# Altium integrated library Winbond Devices.IntLib: 19 symbols
Pins are listed as number, name and electrical type; pins without a type are passive.

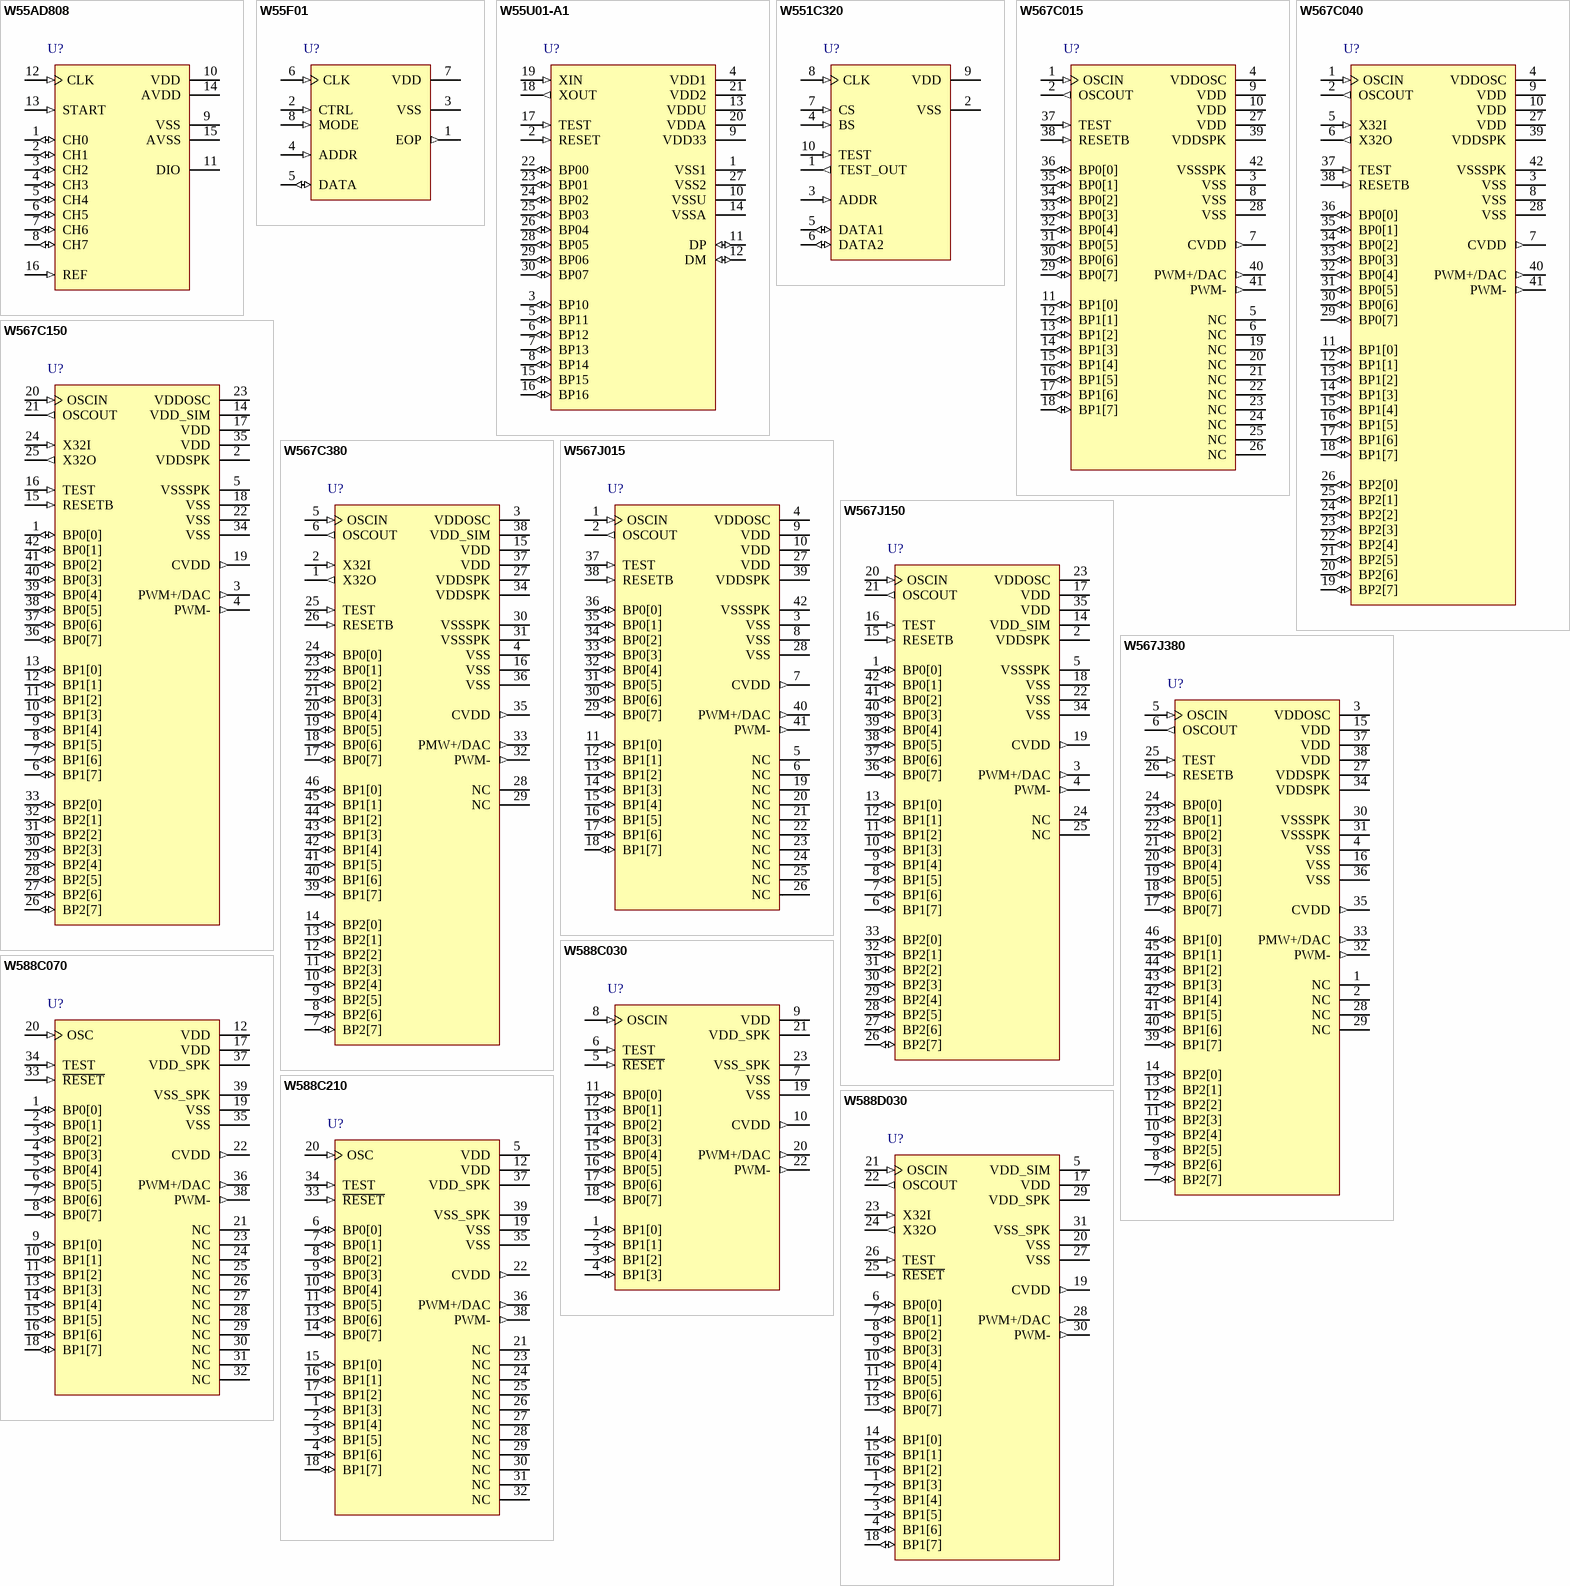
[diagram p0: symbols W55AD808 to W588D030]

## W55AD808
designator U?
8-Bit Analog to Digital Converter, 3V - 5.5V range, Chip Form; PackageForm: Supplied as a Die.; Published: 30-Mar-2007; PackageReference: Chip_Form; Publisher: Altium Limited; ComponentLink1Description: Manufacturer Link; ComponentLink1URL: http://www.winbond.com/
pins: 1 CH0 (io), 2 CH1 (io), 3 CH2 (io), 4 CH3 (io), 5 CH4 (io), 6 CH5 (io), 7 CH6 (io), 8 CH7 (io), 9 VSS (power), 10 VDD (power), 11 DIO, 12 CLK (in), 13 START (in), 14 AVDD (power), 15 AVSS (power), 16 REF (in)

## W55F01
designator U?
128 Kbits Serial Flash EEPROM, Chip Form; PackageForm: Supplied as a Die.; Published: 30-Mar-2007; DatasheetVersion: revA4. Apr-2005; PackageReference: Chip_Form; Publisher: Altium Limited; ComponentLink1Description: Manufacturer Link; ComponentLink1URL: http://www.winbond.com/; ComponentLink2Description: Datasheet; ComponentLink2URL: http://www.winbond.com/e-winbondhtm/partner/PDFresult.asp?Pname=703
pins: 1 EOP (out), 2 CTRL (in), 3 VSS (power), 4 ADDR (in), 5 DATA (io), 6 CLK (in), 7 VDD (power), 8 MODE (in)

## W55U01-A1
designator U?
USB V1.1 Controller, 8-bit 8MHz microprocessor, Chip Form; PackageForm: Supplied as a Die.; Published: 30-Mar-2007; DatasheetVersion: revA5.1, Nov-2005; PackageReference: Chip_Form; Publisher: Altium Limited; ComponentLink1Description: Manufacturer Link; ComponentLink1URL: http://www.winbond.com/
pins: 1 VSS1 (power), 2 RESET (in), 3 BP10 (io), 4 VDD1 (power), 5 BP11 (io), 6 BP12 (io), 7 BP13 (io), 8 BP14 (io), 9 VDD33 (power), 10 VSSU (power), 11 DP (io), 12 DM (io), 13 VDDU (power), 14 VSSA (power), 15 BP15 (io), 16 BP16 (io), 17 TEST (in), 18 XOUT (out), 19 XIN (in), 20 VDDA (power), 21 VDD2 (power), 22 BP00 (io), 23 BP01 (io), 24 BP02 (io), 25 BP03 (io), 26 BP04 (io), 27 VSS2 (power), 28 BP05 (io), 29 BP06 (io), 30 BP07 (io)

## W551C320
designator U?
32 MBits Serial Voice Memory IC, 2.4V - 5.5V range, Chip Form; PackageForm: Supplied as a Die.; Published: 30-Mar-2007; DatasheetVersion: revA3, Oct-2005; PackageReference: Chip_Form; Publisher: Altium Limited; ComponentLink1Description: Manufacturer Link; ComponentLink1URL: http://www.winbond.com/; ComponentLink2Description: Datasheet; ComponentLink2URL: http://www.winbond.com/e-winbondhtm/partner/PDFresult.asp?Pname=702
pins: 1 TEST_OUT (out), 2 VSS (power), 3 ADDR (in), 4 BS (in), 5 DATA1 (io), 6 DATA2 (io), 7 CS (in), 8 CLK (in), 9 VDD (power), 10 TEST (in)

## W567C015
designator U?
16-Channel Speech+Melody Processor, 16 I/Os, 17 second Playback Duration, Chip Form; PackageForm: Supplied as a Die.; Published: 30-Mar-2007; DatasheetVersion: revA0, Dec-2006; PackageReference: Chip_Form; Publisher: Altium Limited; ComponentLink1Description: Manufacturer Link; ComponentLink1URL: http://www.winbond.com/
pins: 1 OSCIN (in), 2 OSCOUT (out), 3 VSS (power), 4 VDDOSC (power), 5 NC, 6 NC, 7 CVDD (out), 8 VSS (power), 9 VDD (power), 10 VDD (power), 11 BP1[0] (io), 12 BP1[1] (io), 13 BP1[2] (io), 14 BP1[3] (io), 15 BP1[4] (io), 16 BP1[5] (io), 17 BP1[6] (io), 18 BP1[7] (io), 19 NC, 20 NC, 21 NC, 22 NC, 23 NC, 24 NC, 25 NC, 26 NC, 27 VDD (power), 28 VSS (power), 29 BP0[7] (io), 30 BP0[6] (io), 31 BP0[5] (io), 32 BP0[4] (io), 33 BP0[3] (io), 34 BP0[2] (io), 35 BP0[1] (io), 36 BP0[0] (io), 37 TEST (in), 38 RESETB (in), 39 VDDSPK (power), 40 PWM+/DAC (out), 41 PWM- (out), 42 VSSSPK (power)

## W567C040
designator U?
16-Channel Speech+Melody Processor, 24 I/Os, 43 second Playback Duration, Chip Form; PackageForm: Supplied as a Die.; Published: 30-Mar-2007; DatasheetVersion: revA0, Dec-2006; PackageReference: Chip_Form; Publisher: Altium Limited; ComponentLink1Description: Manufacturer Link; ComponentLink1URL: http://www.winbond.com/
pins: 1 OSCIN (in), 2 OSCOUT (out), 3 VSS (power), 4 VDDOSC (power), 5 X32I (in), 6 X32O (out), 7 CVDD (out), 8 VSS (power), 9 VDD (power), 10 VDD (power), 11 BP1[0] (io), 12 BP1[1] (io), 13 BP1[2] (io), 14 BP1[3] (io), 15 BP1[4] (io), 16 BP1[5] (io), 17 BP1[6] (io), 18 BP1[7] (io), 19 BP2[7] (io), 20 BP2[6] (io), 21 BP2[5] (io), 22 BP2[4] (io), 23 BP2[3] (io), 24 BP2[2] (io), 25 BP2[1] (io), 26 BP2[0] (io), 27 VDD (power), 28 VSS (power), 29 BP0[7] (io), 30 BP0[6] (io), 31 BP0[5] (io), 32 BP0[4] (io), 33 BP0[3] (io), 34 BP0[2] (io), 35 BP0[1] (io), 36 BP0[0] (io), 37 TEST (in), 38 RESETB (in), 39 VDDSPK (power), 40 PWM+/DAC (out), 41 PWM- (out), 42 VSSSPK (power)

## W567C150
designator U?
16-Channel Speech+Melody Processor, 24 I/Os, 162 second Playback Duration, Chip Form; PackageForm: Supplied as a Die.; Published: 30-Mar-2007; DatasheetVersion: revA0, Dec-2006; PackageReference: Chip_Form; Publisher: Altium Limited; ComponentLink1Description: Manufacturer Link; ComponentLink1URL: http://www.winbond.com/
pins: 1 BP0[0] (io), 2 VDDSPK (power), 3 PWM+/DAC (out), 4 PWM- (out), 5 VSSSPK (power), 6 BP1[7] (io), 7 BP1[6] (io), 8 BP1[5] (io), 9 BP1[4] (io), 10 BP1[3] (io), 11 BP1[2] (io), 12 BP1[1] (io), 13 BP1[0] (io), 14 VDD_SIM (power), 15 RESETB (in), 16 TEST (in), 17 VDD (power), 18 VSS (power), 19 CVDD (out), 20 OSCIN (in), 21 OSCOUT (out), 22 VSS (power), 23 VDDOSC (power), 24 X32I (in), 25 X32O (out), 26 BP2[7] (io), 27 BP2[6] (io), 28 BP2[5] (io), 29 BP2[4] (io), 30 BP2[3] (io), 31 BP2[2] (io), 32 BP2[1] (io), 33 BP2[0] (io), 34 VSS (power), 35 VDD (power), 36 BP0[7] (io), 37 BP0[6] (io), 38 BP0[5] (io), 39 BP0[4] (io), 40 BP0[3] (io), 41 BP0[2] (io), 42 BP0[1] (io)

## W567C380
designator U?
16-Channel Speech+Melody Processor, 24 I/Os, 400 second Playback Duration, Chip Form; PackageForm: Supplied as a Die.; Published: 30-Mar-2007; DatasheetVersion: revA0, Dec-2006; PackageReference: Chip_Form; Publisher: Altium Limited; ComponentLink1Description: Manufacturer Link; ComponentLink1URL: http://www.winbond.com/
pins: 1 X32O (out), 2 X32I (in), 3 VDDOSC (power), 4 VSS (power), 5 OSCIN (in), 6 OSCOUT (out), 7 BP2[7] (io), 8 BP2[6] (io), 9 BP2[5] (io), 10 BP2[4] (io), 11 BP2[3] (io), 12 BP2[2] (io), 13 BP2[1] (io), 14 BP2[0] (io), 15 VDD (power), 16 VSS (power), 17 BP0[7] (io), 18 BP0[6] (io), 19 BP0[5] (io), 20 BP0[4] (io), 21 BP0[3] (io), 22 BP0[2] (io), 23 BP0[1] (io), 24 BP0[0] (io), 25 TEST (in), 26 RESETB (in), 27 VDDSPK (power), 28 NC, 29 NC, 30 VSSSPK (power), 31 VSSSPK (power), 32 PWM- (out), 33 PMW+/DAC (out), 34 VDDSPK (power), 35 CVDD (out), 36 VSS (power), 37 VDD (power), 38 VDD_SIM (power), 39 BP1[7] (io), 40 BP1[6] (io), 41 BP1[5] (io), 42 BP1[4] (io), 43 BP1[3] (io), 44 BP1[2] (io), 45 BP1[1] (io), 46 BP1[0] (io)

## W567J015
designator U?
6-Channel Speech+Melody Processor, 16 I/Os, 17 second Playback Duration, Chip Form; PackageForm: Supplied as a Die.; Published: 30-Mar-2007; DatasheetVersion: revA0, Jan-2007; PackageReference: Chip_Form; Publisher: Altium Limited; ComponentLink1Description: Manufacturer Link; ComponentLink1URL: http://www.winbond.com/
pins: 1 OSCIN (in), 2 OSCOUT (out), 3 VSS (power), 4 VDDOSC (power), 5 NC, 6 NC, 7 CVDD (out), 8 VSS (power), 9 VDD (power), 10 VDD (power), 11 BP1[0] (io), 12 BP1[1] (io), 13 BP1[2] (io), 14 BP1[3] (io), 15 BP1[4] (io), 16 BP1[5] (io), 17 BP1[6] (io), 18 BP1[7] (io), 19 NC, 20 NC, 21 NC, 22 NC, 23 NC, 24 NC, 25 NC, 26 NC, 27 VDD (power), 28 VSS (power), 29 BP0[7] (io), 30 BP0[6] (io), 31 BP0[5] (io), 32 BP0[4] (io), 33 BP0[3] (io), 34 BP0[2] (io), 35 BP0[1] (io), 36 BP0[0] (io), 37 TEST (in), 38 RESETB (in), 39 VDDSPK (power), 40 PWM+/DAC (out), 41 PWM- (out), 42 VSSSPK (power)

## W567J150
designator U?
6-Channel Speech+Melody Processor, 24 I/Os, 162 second Playback Duration, Chip Form; PackageForm: Supplied as a Die.; Published: 30-Mar-2007; DatasheetVersion: revA0, Jan-2007; PackageReference: Chip_Form; Publisher: Altium Limited; ComponentLink1Description: Manufacturer Link; ComponentLink1URL: http://www.winbond.com/
pins: 1 BP0[0] (io), 2 VDDSPK (power), 3 PWM+/DAC (out), 4 PWM- (out), 5 VSSSPK (power), 6 BP1[7] (io), 7 BP1[6] (io), 8 BP1[5] (io), 9 BP1[4] (io), 10 BP1[3] (io), 11 BP1[2] (io), 12 BP1[1] (io), 13 BP1[0] (io), 14 VDD_SIM (power), 15 RESETB (in), 16 TEST (in), 17 VDD (power), 18 VSS (power), 19 CVDD (out), 20 OSCIN (in), 21 OSCOUT (out), 22 VSS (power), 23 VDDOSC (power), 24 NC, 25 NC, 26 BP2[7] (io), 27 BP2[6] (io), 28 BP2[5] (io), 29 BP2[4] (io), 30 BP2[3] (io), 31 BP2[2] (io), 32 BP2[1] (io), 33 BP2[0] (io), 34 VSS (power), 35 VDD (power), 36 BP0[7] (io), 37 BP0[6] (io), 38 BP0[5] (io), 39 BP0[4] (io), 40 BP0[3] (io), 41 BP0[2] (io), 42 BP0[1] (io)

## W567J380
designator U?
6-Channel Speech+Melody Processor, 24 I/Os, 400 second Playback Duration, Chip Form; PackageForm: Supplied as a Die.; Published: 30-Mar-2007; DatasheetVersion: revA0, Jan-2007; PackageReference: Chip_Form; Publisher: Altium Limited; ComponentLink1Description: Manufacturer Link; ComponentLink1URL: http://www.winbond.com/
pins: 1 NC, 2 NC, 3 VDDOSC (power), 4 VSS (power), 5 OSCIN (in), 6 OSCOUT (out), 7 BP2[7] (io), 8 BP2[6] (io), 9 BP2[5] (io), 10 BP2[4] (io), 11 BP2[3] (io), 12 BP2[2] (io), 13 BP2[1] (io), 14 BP2[0] (io), 15 VDD (power), 16 VSS (power), 17 BP0[7] (io), 18 BP0[6] (io), 19 BP0[5] (io), 20 BP0[4] (io), 21 BP0[3] (io), 22 BP0[2] (io), 23 BP0[1] (io), 24 BP0[0] (io), 25 TEST (in), 26 RESETB (in), 27 VDDSPK (power), 28 NC, 29 NC, 30 VSSSPK (power), 31 VSSSPK (power), 32 PWM- (out), 33 PMW+/DAC (out), 34 VDDSPK (power), 35 CVDD (out), 36 VSS (power), 37 VDD (power), 38 VDD (power), 39 BP1[7] (io), 40 BP1[6] (io), 41 BP1[5] (io), 42 BP1[4] (io), 43 BP1[3] (io), 44 BP1[2] (io), 45 BP1[1] (io), 46 BP1[0] (io)

## W588C030
designator U?
8-Bit MCU with Voice/Melody Synthesizer, 12 I/Os, Chip Form; PackageForm: Supplied as a Die.; Published: 30-Mar-2007; DatasheetVersion: revA0.1, Jun-2006; PackageReference: Chip_Form; Publisher: Altium Limited; ComponentLink1Description: Manufacturer Link; ComponentLink1URL: http://www.winbond.com/
pins: 1 BP1[0] (io), 2 BP1[1] (io), 3 BP1[2] (io), 4 BP1[3] (io), 5 ~{RESET} (in), 6 TEST (in), 7 VSS (power), 8 OSCIN (in), 9 VDD (power), 10 CVDD (out), 11 BP0[0] (io), 12 BP0[1] (io), 13 BP0[2] (io), 14 BP0[3] (io), 15 BP0[4] (io), 16 BP0[5] (io), 17 BP0[6] (io), 18 BP0[7] (io), 19 VSS (power), 20 PWM+/DAC (out), 21 VDD_SPK (power), 22 PWM- (out), 23 VSS_SPK (power)

## W588C070
designator U?
8-Bit MCU with Voice/Melody Synthesizer, 16 I/Os, Chip Form; PackageForm: Supplied as a Die.; Published: 30-Mar-2007; DatasheetVersion: revA0.1, Jun-2006; PackageReference: Chip_Form; Publisher: Altium Limited; ComponentLink1Description: Manufacturer Link; ComponentLink1URL: http://www.winbond.com/
pins: 1 BP0[0] (io), 2 BP0[1] (io), 3 BP0[2] (io), 4 BP0[3] (io), 5 BP0[4] (io), 6 BP0[5] (io), 7 BP0[6] (io), 8 BP0[7] (io), 9 BP1[0] (io), 10 BP1[1] (io), 11 BP1[2] (io), 12 VDD (power), 13 BP1[3] (io), 14 BP1[4] (io), 15 BP1[5] (io), 16 BP1[6] (io), 17 VDD (power), 18 BP1[7] (io), 19 VSS (power), 20 OSC (in), 21 NC, 22 CVDD (out), 23 NC, 24 NC, 25 NC, 26 NC, 27 NC, 28 NC, 29 NC, 30 NC, 31 NC, 32 NC, 33 ~{RESET} (in), 34 TEST (in), 35 VSS (power), 36 PWM+/DAC (out), 37 VDD_SPK (power), 38 PWM- (out), 39 VSS_SPK (power)

## W588C210
designator U?
8-Bit MCU with Voice/Melody Synthesizer, 16 I/Os, Chip Form; PackageForm: Supplied as a Die.; Published: 30-Mar-2007; DatasheetVersion: revA0.1, Jun-2006; PackageReference: Chip_Form; Publisher: Altium Limited; ComponentLink1Description: Manufacturer Link; ComponentLink1URL: http://www.winbond.com/
pins: 1 BP1[3] (io), 2 BP1[4] (io), 3 BP1[5] (io), 4 BP1[6] (io), 5 VDD (power), 6 BP0[0] (io), 7 BP0[1] (io), 8 BP0[2] (io), 9 BP0[3] (io), 10 BP0[4] (io), 11 BP0[5] (io), 12 VDD (power), 13 BP0[6] (io), 14 BP0[7] (io), 15 BP1[0] (io), 16 BP1[1] (io), 17 BP1[2] (io), 18 BP1[7] (io), 19 VSS (power), 20 OSC (in), 21 NC, 22 CVDD (out), 23 NC, 24 NC, 25 NC, 26 NC, 27 NC, 28 NC, 29 NC, 30 NC, 31 NC, 32 NC, 33 ~{RESET} (in), 34 TEST (in), 35 VSS (power), 36 PWM+/DAC (out), 37 VDD_SPK (power), 38 PWM- (out), 39 VSS_SPK (power)

## W588D030
designator U?
8-Bit MCU with Voice/Melody Synthesizer, 16 I/Os, 32 second Playback Duration, Chip Form; PackageForm: Supplied as a Die.; Published: 30-Mar-2007; DatasheetVersion: revA3, Apr-2006; PackageReference: Chip_Form; Publisher: Altium Limited; ComponentLink1Description: Manufacturer Link; ComponentLink1URL: http://www.winbond.com/
pins: 1 BP1[3] (io), 2 BP1[4] (io), 3 BP1[5] (io), 4 BP1[6] (io), 5 VDD_SIM (power), 6 BP0[0] (io), 7 BP0[1] (io), 8 BP0[2] (io), 9 BP0[3] (io), 10 BP0[4] (io), 11 BP0[5] (io), 12 BP0[6] (io), 13 BP0[7] (io), 14 BP1[0] (io), 15 BP1[1] (io), 16 BP1[2] (io), 17 VDD (power), 18 BP1[7] (io), 19 CVDD (out), 20 VSS (power), 21 OSCIN (in), 22 OSCOUT (out), 23 X32I (in), 24 X32O (out), 25 ~{RESET} (in), 26 TEST (in), 27 VSS (power), 28 PWM+/DAC (out), 29 VDD_SPK (power), 30 PWM- (out), 31 VSS_SPK (power)

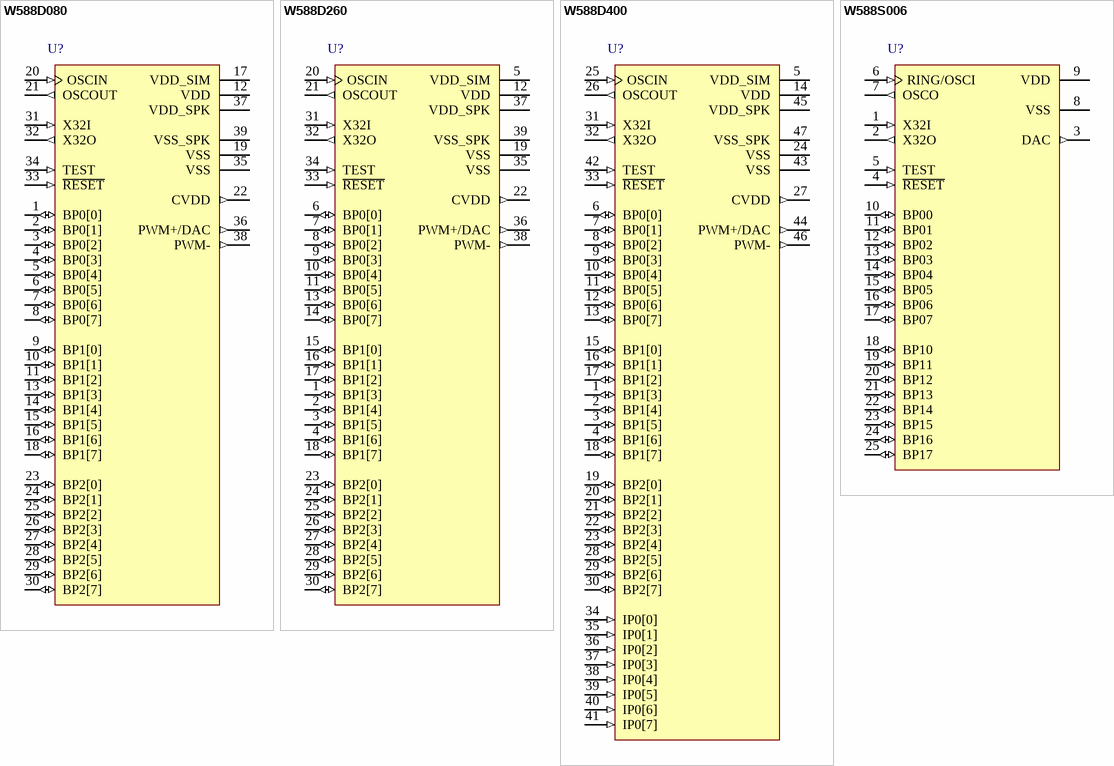
[diagram p1: symbols W588D080 to W588S006]

## W588D080
designator U?
8-Bit MCU with Voice/Melody Synthesizer, 24 I/Os, 100 second Playback Duration, Chip Form; PackageForm: Supplied as a Die.; Published: 30-Mar-2007; DatasheetVersion: revA3, Apr-2006; PackageReference: Chip_Form; Publisher: Altium Limited; ComponentLink1Description: Manufacturer Link; ComponentLink1URL: http://www.winbond.com/
pins: 1 BP0[0] (io), 2 BP0[1] (io), 3 BP0[2] (io), 4 BP0[3] (io), 5 BP0[4] (io), 6 BP0[5] (io), 7 BP0[6] (io), 8 BP0[7] (io), 9 BP1[0] (io), 10 BP1[1] (io), 11 BP1[2] (io), 12 VDD (power), 13 BP1[3] (io), 14 BP1[4] (io), 15 BP1[5] (io), 16 BP1[6] (io), 17 VDD_SIM (power), 18 BP1[7] (io), 19 VSS (power), 20 OSCIN (in), 21 OSCOUT (out), 22 CVDD (out), 23 BP2[0] (io), 24 BP2[1] (io), 25 BP2[2] (io), 26 BP2[3] (io), 27 BP2[4] (io), 28 BP2[5] (io), 29 BP2[6] (io), 30 BP2[7] (io), 31 X32I (in), 32 X32O (out), 33 ~{RESET} (in), 34 TEST (in), 35 VSS (power), 36 PWM+/DAC (out), 37 VDD_SPK (power), 38 PWM- (out), 39 VSS_SPK (power)

## W588D260
designator U?
8-Bit MCU with Voice/Melody Synthesizer, 24 I/Os, 271 second Playback Duration, Chip Form; PackageForm: Supplied as a Die.; Published: 30-Mar-2007; DatasheetVersion: revA3, Apr-2006; PackageReference: Chip_Form; Publisher: Altium Limited; ComponentLink1Description: Manufacturer Link; ComponentLink1URL: http://www.winbond.com/
pins: 1 BP1[3] (io), 2 BP1[4] (io), 3 BP1[5] (io), 4 BP1[6] (io), 5 VDD_SIM (power), 6 BP0[0] (io), 7 BP0[1] (io), 8 BP0[2] (io), 9 BP0[3] (io), 10 BP0[4] (io), 11 BP0[5] (io), 12 VDD (power), 13 BP0[6] (io), 14 BP0[7] (io), 15 BP1[0] (io), 16 BP1[1] (io), 17 BP1[2] (io), 18 BP1[7] (io), 19 VSS (power), 20 OSCIN (in), 21 OSCOUT (out), 22 CVDD (out), 23 BP2[0] (io), 24 BP2[1] (io), 25 BP2[2] (io), 26 BP2[3] (io), 27 BP2[4] (io), 28 BP2[5] (io), 29 BP2[6] (io), 30 BP2[7] (io), 31 X32I (in), 32 X32O (out), 33 ~{RESET} (in), 34 TEST (in), 35 VSS (power), 36 PWM+/DAC (out), 37 VDD_SPK (power), 38 PWM- (out), 39 VSS_SPK (power)

## W588D400
designator U?
8-Bit MCU with Voice/Melody Synthesizer, 24 I/Os, 408 second Playback Duration, Chip Form; PackageForm: Supplied as a Die.; Published: 30-Mar-2007; DatasheetVersion: revA3, Apr-2006; PackageReference: Chip_Form; Publisher: Altium Limited; ComponentLink1Description: Manufacturer Link; ComponentLink1URL: http://www.winbond.com/
pins: 1 BP1[3] (io), 2 BP1[4] (io), 3 BP1[5] (io), 4 BP1[6] (io), 5 VDD_SIM (power), 6 BP0[0] (io), 7 BP0[1] (io), 8 BP0[2] (io), 9 BP0[3] (io), 10 BP0[4] (io), 11 BP0[5] (io), 12 BP0[6] (io), 13 BP0[7] (io), 14 VDD (power), 15 BP1[0] (io), 16 BP1[1] (io), 17 BP1[2] (io), 18 BP1[7] (io), 19 BP2[0] (io), 20 BP2[1] (io), 21 BP2[2] (io), 22 BP2[3] (io), 23 BP2[4] (io), 24 VSS (power), 25 OSCIN (in), 26 OSCOUT (out), 27 CVDD (out), 28 BP2[5] (io), 29 BP2[6] (io), 30 BP2[7] (io), 31 X32I (in), 32 X32O (out), 33 ~{RESET} (in), 34 IP0[0] (in), 35 IP0[1] (in), 36 IP0[2] (in), 37 IP0[3] (in), 38 IP0[4] (in), 39 IP0[5] (in), 40 IP0[6] (in), 41 IP0[7] (in), 42 TEST (in), 43 VSS (power), 44 PWM+/DAC (out), 45 VDD_SPK (power), 46 PWM- (out), 47 VSS_SPK (power)

## W588S006
designator U?
8-Bit MCU with Voice/Melody Synthesizer, 8 I/Os, Chip Form; PackageForm: Supplied as a Die.; Published: 30-Mar-2007; DatasheetVersion: revA3, Jul-2002; PackageReference: Chip_Form; Publisher: Altium Limited; ComponentLink1Description: Manufacturer Link; ComponentLink1URL: http://www.winbond.com/
pins: 1 X32I (in), 2 X32O (out), 3 DAC (out), 4 ~{RESET} (in), 5 TEST (in), 6 RING/OSCI (in), 7 OSCO (out), 8 VSS (power), 9 VDD (power), 10 BP00 (io), 11 BP01 (io), 12 BP02 (io), 13 BP03 (io), 14 BP04 (io), 15 BP05 (io), 16 BP06 (io), 17 BP07 (io), 18 BP10 (io), 19 BP11 (io), 20 BP12 (io), 21 BP13 (io), 22 BP14 (io), 23 BP15 (io), 24 BP16 (io), 25 BP17 (io)